# EAGLE library part TFT_ILI9341 (library MySTM32F103RGT6)
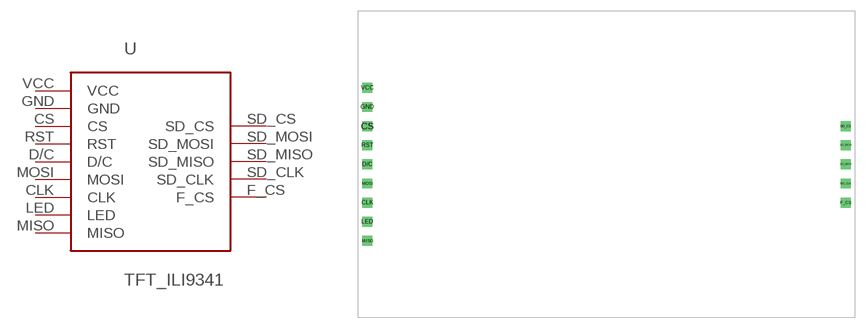
[diagram p2: symbol with the pads of TFT_ILI9341; footprint TFT_ILI9341]

Designator prefix -

## TFT_ILI9341  [TFT_ILI9341]
CLK  CLK
CS  CS
D/C  D/C
F_CS  F_CS
GND  GND
LED  LED
MISO  MISO
MOSI  MOSI
RST  RST
SD_CLK  SD_CLK
SD_CS  SD_CS
SD_MISO  SD_MISO
SD_MOSI  SD_MOSI
VCC  VCC

## Footprint TFT_ILI9341 (pad centres in mm)
drill 0.8 square: CLK -31.75,-5.08; CS -31.75,5.08; D/C -31.75,0; F_CS 31.75,-5.08; GND -31.75,7.62; LED -31.75,-7.62; MISO -31.75,-10.16; MOSI -31.75,-2.54; RST -31.75,2.54; SD_CLK 31.75,-2.54; SD_CS 31.75,5.08; SD_MISO 31.75,0; SD_MOSI 31.75,2.54; VCC -31.75,10.16